# EAGLE library part SPIFLASH (library DaneGardner)
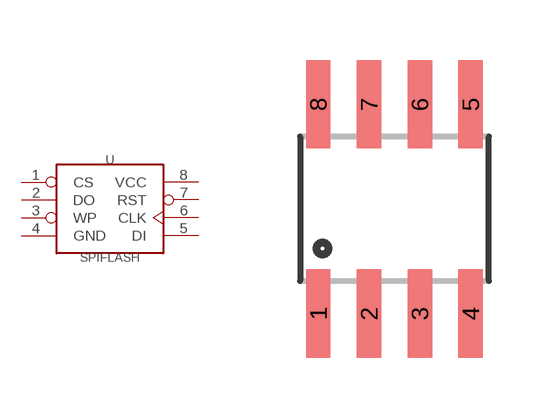
[diagram p8: symbol with the pads of SOIC_8; footprint SOIC_8]

Designator prefix -

## SPIFLASH  [SOIC_8]
1  CS  in
2  DO  out
3  WP  in
4  GND  pwr
5  DI  in
6  CLK  in
7  RST  in
8  VCC  pwr

## Footprint SOIC_8 (pad centres in mm)
Small Outline Package Fits JEDEC packages (narrow SOIC-8)
smd 0.61 x 2.21: 1 -1.905,-2.616; 2 -0.635,-2.616; 3 0.635,-2.616; 4 1.905,-2.616; 5 1.905,2.616; 6 0.635,2.616; 7 -0.635,2.616; 8 -1.905,2.616